# EAGLE library part MAX5969AETB+ (library CameraBoard_Library)
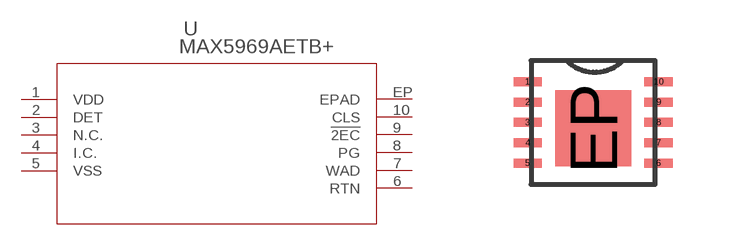
[diagram p5: symbol with the pads of MAX5969AETB+; footprint MAX5969AETB+]

Designator prefix -

## MAX5969AETB+  [MAX5969AETB+]
1  VDD  pwr
2  DET  in
3  N.C.  nc
4  I.C.  pas
5  VSS  pwr
6  RTN  pas
7  WAD  in
8  PG  out
9  !2EC  out
10  CLS  in
EP  EPAD  pas

## Footprint MAX5969AETB+ (pad centres in mm)
smd 0.706 x 0.225: 1 -0.088,2.566; 2 -0.088,2.058; 3 -0.088,1.55; 4 -0.088,1.042; 5 -0.088,0.533; 6 3.187,0.533; 7 3.187,1.042; 8 3.187,1.55; 9 3.187,2.058; 10 3.187,2.566
smd 1.899 x 1.9: EP 1.55,1.4